# EAGLE library part TPA3110D2PWPR (library edrtech_lib)
Check availability <https://pricing.snapeda.com/parts/TPA3110D2PWPR/Texas%20Instruments/view-part?ref=eda>
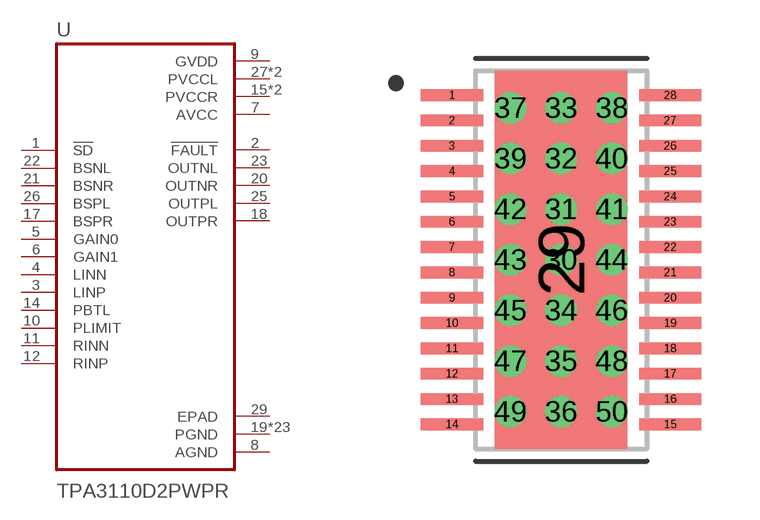
[diagram p18: symbol with the pads of IC_TPS61196PWPRQ1; footprint IC_TPS61196PWPRQ1]

Designator prefix U

## TPA3110D2PWPR (AVAILABILITY: In Stock; CHECK_PRICES: https://www.snapeda.com/parts/TPA3110D2PWPR/Texas+Instruments/view-part/?ref=eda; DESCRIPTION: 15-W stereo, 30-W mono, 8- to 26-V supply, analog input Class-D audio amplifier w/ SpeakerGuard™; MF: Texas Instruments; MP: TPA3110D2PWPR; PACKAGE: HTSSOP-28 Texas Instruments; PRICE: None; PURCHASE-URL: https://www.snapeda.com/api/url_track_click_mouser/?unipart_id=49623&manufacturer=Texas Instruments&part_name=TPA3110D2PWPR&search_term=tpa3110d2; SNAPEDA_LINK: https://www.snapeda.com/parts/TPA3110D2PWPR/Texas+Instruments/view-part/?ref=snap)  [IC_TPS61196PWPRQ1]
1  !SD  in
2  !FAULT  out
3  LINP  in
4  LINN  in
5  GAIN0  in
6  GAIN1  in
7  AVCC  pwr
8  AGND  pwr
9  GVDD  pwr
10  PLIMIT  in
11  RINN  in
12  RINP  in
14  PBTL  in
15  PVCCR  pwr
16  PVCCR  pwr
17  BSPR  in
18  OUTPR  out
19  PGND  pwr
20  OUTNR  out
21  BSNR  in
22  BSNL  in
23  OUTNL  out
24  PGND  pwr
25  OUTPL  out
26  BSPL  in
27  PVCCL  pwr
28  PVCCL  pwr
29  EPAD  pwr
30  PGND  pwr
31  PGND  pwr
32  PGND  pwr
33  PGND  pwr
34  PGND  pwr
35  PGND  pwr
36  PGND  pwr
37  PGND  pwr
38  PGND  pwr
39  PGND  pwr
40  PGND  pwr
41  PGND  pwr
42  PGND  pwr
43  PGND  pwr
44  PGND  pwr
45  PGND  pwr
46  PGND  pwr
47  PGND  pwr
48  PGND  pwr
49  PGND  pwr
50  PGND  pwr

## Footprint IC_TPS61196PWPRQ1 (pad centres in mm)
smd 1.6 x 0.3: 1 -2.8,4.225; 2 -2.8,3.575; 3 -2.8,2.925; 4 -2.8,2.275; 5 -2.8,1.625; 6 -2.8,0.975; 7 -2.8,0.325; 8 -2.8,-0.325; 9 -2.8,-0.975; 10 -2.8,-1.625; 11 -2.8,-2.275; 12 -2.8,-2.925; 13 -2.8,-3.575; 14 -2.8,-4.225; 15 2.8,-4.225; 16 2.8,-3.575; 17 2.8,-2.925; 18 2.8,-2.275; 19 2.8,-1.625; 20 2.8,-0.975; 21 2.8,-0.325; 22 2.8,0.325; 23 2.8,0.975; 24 2.8,1.625; 25 2.8,2.275; 26 2.8,2.925; 27 2.8,3.575; 28 2.8,4.225
smd 3.4 x 9.7: 29 0,0
drill 0.3 pad 0.5: 30 0,0; 31 0,1.3; 32 0,2.6; 33 0,3.9; 34 0,-1.3; 35 0,-2.6; 36 0,-3.9; 37 -1.3,3.9; 38 1.3,3.9; 39 -1.3,2.6; 40 1.3,2.6; 41 1.3,1.3; 42 -1.3,1.3; 43 -1.3,0; 44 1.3,0; 45 -1.3,-1.3; 46 1.3,-1.3; 47 -1.3,-2.6; 48 1.3,-2.6; 49 -1.3,-3.9; 50 1.3,-3.9